# EAGLE library part VL53L5CX (library SparkFun-Sensors)
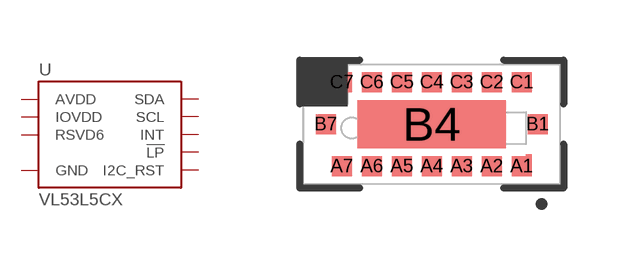
[diagram p29: symbol with the pads of VL53L5CX; footprint VL53L5CX]

Designator prefix U

## VL53L5CX (PROD_ID: IC-16254)  [VL53L5CX]
A1  I2C_RST
A2  GND
A3  INT
A4  IOVDD
A5  !LP
A6  GND
A7  GND
B1  AVDD
B4  GND
B7  AVDD
C1  GND
C2  RSVD6
C3  SDA
C4  SCL
C6  GND
C7  GND

## Footprint VL53L5CX (pad centres in mm)
smd 0.5 x 0.5: A1 2.25,-1.05; A2 1.5,-1.05; A3 0.75,-1.05; A4 0,-1.05; A5 -0.75,-1.05; A6 -1.5,-1.05; A7 -2.25,-1.05; B1 2.65,0; B7 -2.65,0; C1 2.25,1.05; C2 1.5,1.05; C3 0.75,1.05; C4 0,1.05; C5 -0.75,1.05; C6 -1.5,1.05; C7 -2.25,1.05
smd 3.7 x 1.2: B4 0,0